# EAGLE library part FH12-6S-0.5 (library 08_CONECTOR)
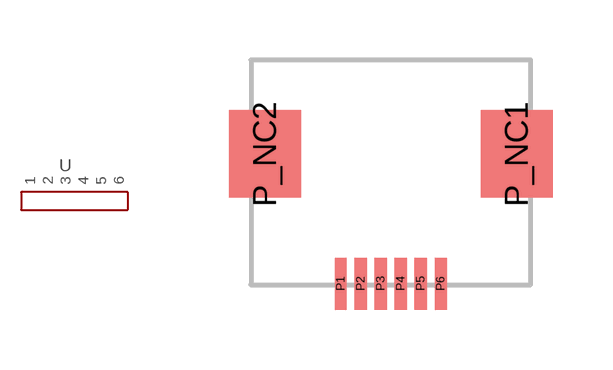
[diagram p5: symbol with the pads of FPC6; footprint FPC6]

Designator prefix -

## FH12-6S-0.5  [FPC6]
P1  1
P2  2
P3  3
P4  4
P5  5
P6  6
P_NC1  5
P_NC2  5

## Footprint FPC6 (pad centres in mm)
smd 0.3 x 1.3: P1 -1.25,0; P2 -0.75,0; P3 -0.25,0; P4 0.25,0; P5 0.75,0; P6 1.25,0
smd 1.8 x 2.2: P_NC1 3.15,3.25; P_NC2 -3.15,3.25